# Altium footprint library Potentiometer_THT.PcbLib: 112 footprints (part 4 of 7)
Each footprint in its own frame and in the unit in brackets; x right, y up, seen from the top. Pads: shape width x height; smd on the part's side, far side on the other; paste and mask are expansions set on the pad; w line width, h text height; cw(c..) or ccw(c..) is an arc to the next point about the centre after c.
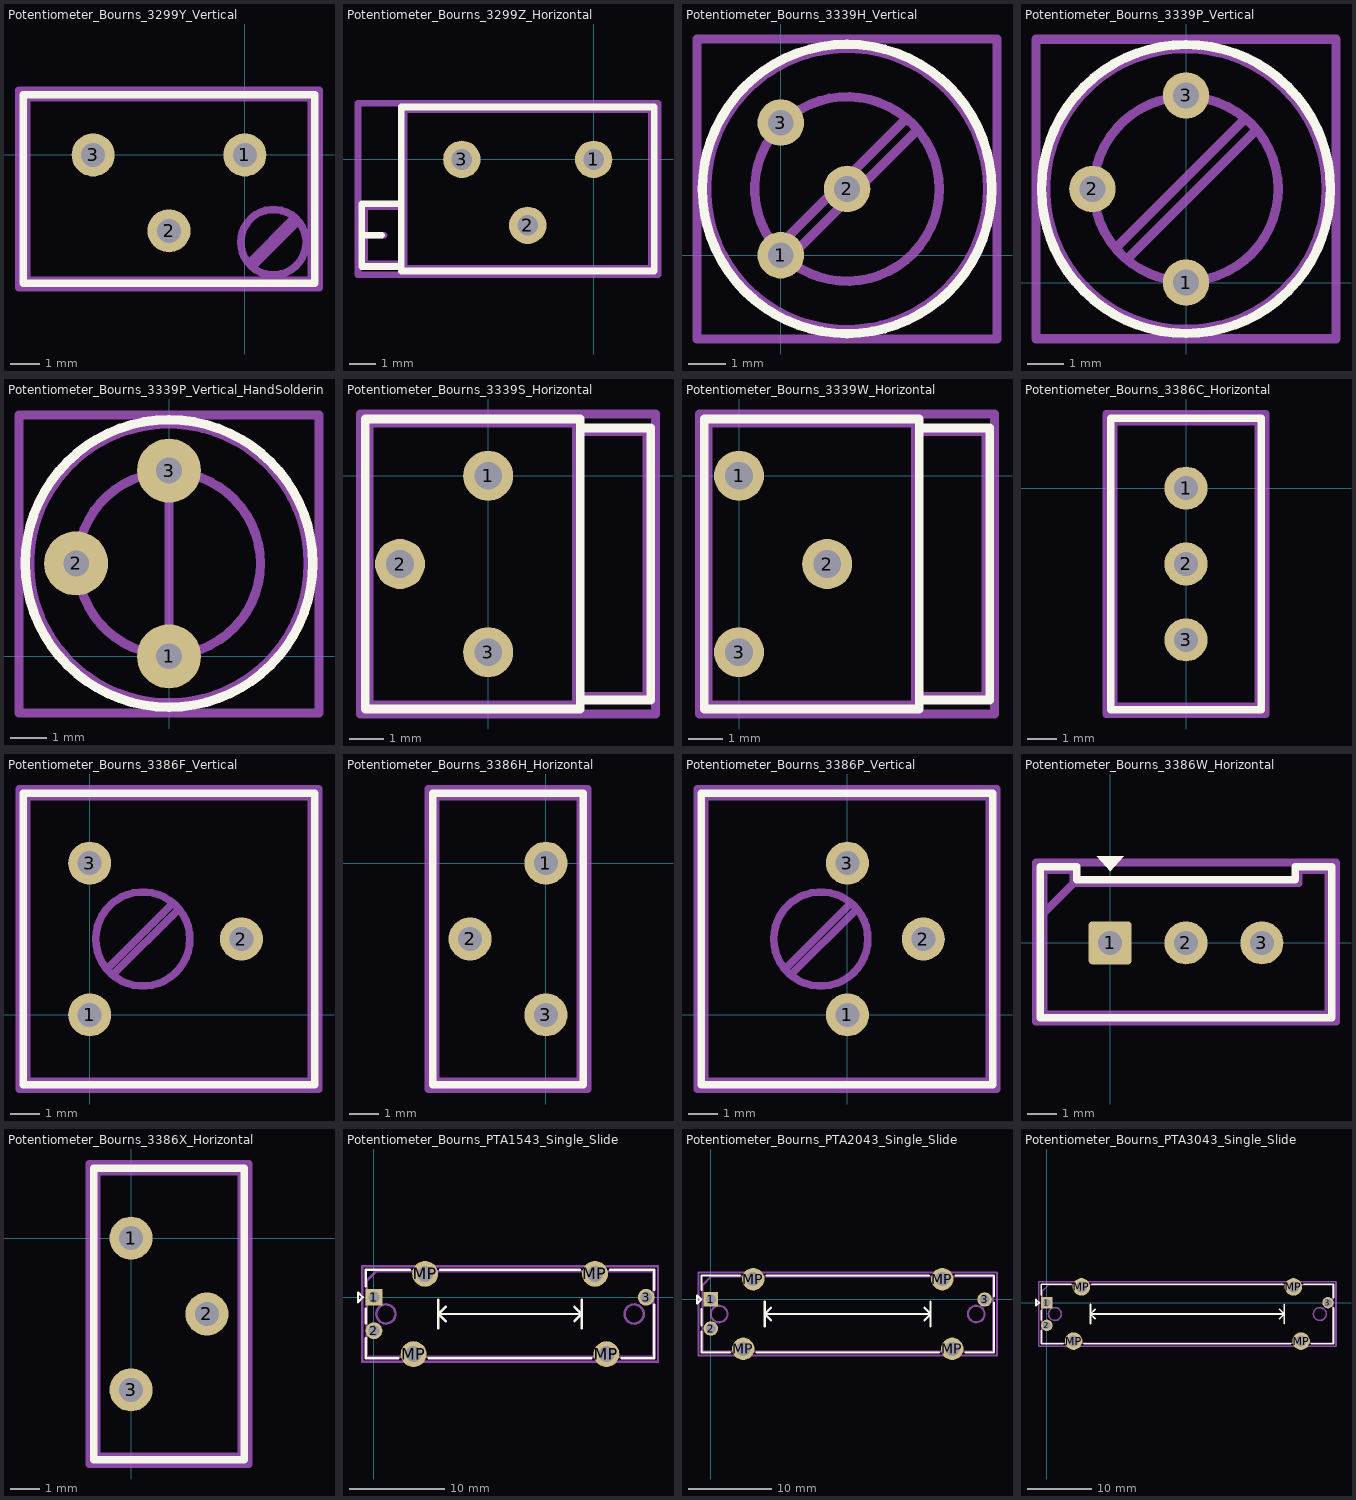
[diagram p3: the footprints below, top view; thin cyan lines are the x and y axes]

## Potentiometer_Bourns_3299Y_Vertical [mm]
pads (3):
  round 1.44 hole 0.8: 1(0,0) 2(-2.54,-2.54) 3(-5.08,0)
F.SilkS:
  lines w0.254: -7.415,-4.3 -7.415,2.02 2.335,2.02 2.335,-4.3 -7.415,-4.3
F.Fab:
  circle w0.254: c0.955,-2.92 r1.095
  lines w0.254: 0.125,-3.617 1.652,-2.09 ; 0.258,-3.75 1.785,-2.223 ; -7.305,-4.19 -7.305,1.91 2.225,1.91 2.225,-4.19 -7.305,-4.19
  text "'.Designator'" at -7.222,-1.98 h1
F.CrtYd:
  lines w0.254: -7.56,-4.44 -7.56,2.16 2.48,2.16 2.48,-4.44 -7.56,-4.44
3D body "Potentiometer_Bourns_3299Y_Vertical.step": height 11.65, standoff -2.9, extent -7.305,-4.19 2.225,1.91

## Potentiometer_Bourns_3299Z_Horizontal [mm]
pads (3):
  round 1.44 hole 0.8: 1(0,0) 2(-2.54,-2.54) 3(-5.08,0)
F.SilkS:
  lines w0.254: -8.935,-2.92 -8.175,-2.92 ; -8.935,-4.125 -8.935,-1.715 -7.415,-1.715 -7.415,-4.125 -8.935,-4.125 ; -7.415,-4.3 -7.415,2.02 2.335,2.02 2.335,-4.3 -7.415,-4.3
F.Fab:
  lines w0.254: -8.825,-2.92 -8.065,-2.92 ; -8.825,-4.015 -8.825,-1.825 -7.305,-1.825 -7.305,-4.015 -8.825,-4.015 ; -7.305,-4.19 -7.305,1.91 2.225,1.91 2.225,-4.19 -7.305,-4.19
  text "'.Designator'" at -6.587,-1.98 h1
F.CrtYd:
  lines w0.254: -9.08,-4.44 -9.08,2.16 2.48,2.16 2.48,-4.44 -9.08,-4.44
3D body "Potentiometer_Bourns_3299Z_Horizontal.step": height 10.13, standoff -2.9, extent -8.825,-4.19 2.225,1.91

## Potentiometer_Bourns_3339H_Vertical [mm]
pads (3):
  round 1.26 hole 0.7: 1(0,0) 2(1.796,1.796) 3(0,3.592)
F.SilkS:
  circle w0.254: c1.796,1.796 r3.92
F.Fab:
  circle w0.254: c1.796,1.796 r2.5
  circle w0.254: c1.796,1.796 r3.81
  lines w0.254: -0.1,0.205 3.387,3.692 ; 0.205,-0.1 3.692,3.387
  text "'.Designator'" at -0.666,-0.876 h0.66
F.CrtYd:
  lines w0.254: -2.27,-2.27 -2.27,5.86 5.86,5.86 5.86,-2.27 -2.27,-2.27
3D body "Potentiometer_Bourns_3339H_Vertical.step": height 6.35, standoff -4.78, extent -2.013,-2.02 5.607,5.6

## Potentiometer_Bourns_3339P_Vertical [mm]
pads (3):
  round 1.26 hole 0.7: 1(0,0) 2(-2.54,2.54) 3(0,5.08)
F.SilkS:
  circle w0.254: c0,2.54 r3.92
F.Fab:
  circle w0.254: c0,2.54 r2.5
  circle w0.254: c0,2.54 r3.81
  lines w0.254: -1.896,0.949 1.591,4.436 ; -1.591,0.644 1.896,4.131
  text "'.Designator'" at -2.462,-0.132 h0.66
F.CrtYd:
  lines w0.254: -4.07,-1.52 -4.07,6.6 4.07,6.6 4.07,-1.52 -4.07,-1.52
3D body "Potentiometer_Bourns_3339P_Vertical.step": height 6.35, standoff -4.78, extent -3.81,-1.27 3.81,6.35

## Potentiometer_Bourns_3339P_Vertical_HandSoldering [mm]
pads (3):
  round 1.75 hole 0.7: 1(0,0) 2(-2.54,2.54) 3(0,5.08)
F.SilkS:
  circle w0.254: c0,2.54 r3.93
F.Fab:
  circle w0.254: c0,2.54 r3.81
  circle w0.254: c0,2.54 r2.5
  lines w0.254: 0,0.064 0.001,5.014 0,0.064
  text "'.Designator'" at -2.412,-0.182 h0.66
F.CrtYd:
  lines w0.254: -4.1,-1.55 4.1,-1.55 4.1,6.6 -4.1,6.6 -4.1,-1.55
3D body "Potentiometer_Bourns_3339P_Vertical.step": height 6.35, standoff -4.78, extent -3.81,-1.27 3.81,6.35

## Potentiometer_Bourns_3339S_Horizontal [mm]
pads (3):
  round 1.44 hole 0.8: 1(0,0) 2(-2.54,-2.54) 3(0,-5.08)
F.SilkS:
  lines w0.254: -3.54,-6.715 -3.54,1.635 2.65,1.635 2.65,-6.715 -3.54,-6.715 ; 2.65,-6.46 2.65,1.38 4.68,1.38 4.68,-6.46 2.65,-6.46
F.Fab:
  lines w0.254: -3.43,-6.605 -3.43,1.525 2.54,1.525 2.54,-6.605 -3.43,-6.605 ; 2.54,-6.35 2.54,1.27 4.57,1.27 4.57,-6.35 2.54,-6.35
  text "'.Designator'" at -4.492,-3.38 h1
F.CrtYd:
  lines w0.254: -3.68,-6.86 -3.68,1.78 4.82,1.78 4.82,-6.86 -3.68,-6.86

## Potentiometer_Bourns_3339W_Horizontal [mm]
pads (3):
  round 1.44 hole 0.8: 1(0,0) 2(2.54,-2.54) 3(0,-5.08)
F.SilkS:
  lines w0.254: -1,-6.715 5.19,-6.715 5.19,1.635 -1,1.635 -1,-6.715 ; 5.19,-6.46 7.22,-6.46 7.22,1.38 5.19,1.38 5.19,-6.46
F.Fab:
  lines w0.254: -0.89,-6.605 5.08,-6.605 5.08,1.525 -0.89,1.525 -0.89,-6.605 ; 5.08,-6.35 7.11,-6.35 7.11,1.27 5.08,1.27 5.08,-6.35
  text "'.Designator'" at -1.952,-3.38 h1
F.CrtYd:
  lines w0.254: -1.14,-6.86 7.36,-6.86 7.36,1.78 -1.14,1.78 -1.14,-6.86

## Potentiometer_Bourns_3386C_Horizontal [mm]
pads (3):
  round 1.44 hole 0.8: 1(0,0) 2(0,-2.54) 3(0,-5.08)
F.SilkS:
  lines w0.254: -2.525,-7.415 -2.525,2.335 2.525,2.335 2.525,-7.415 -2.525,-7.415
F.Fab:
  lines w0.254: -2.415,-7.305 -2.415,2.225 2.415,2.225 2.415,-7.305 -2.415,-7.305
  text "'.Designator'" at -4.047,-3.38 h1
F.CrtYd:
  lines w0.254: -2.67,-7.56 -2.67,2.48 2.67,2.48 2.67,-7.56 -2.67,-7.56

## Potentiometer_Bourns_3386F_Vertical [mm]
pads (3):
  round 1.44 hole 0.8: 1(0,0) 2(5.08,2.54) 3(0,5.08)
F.SilkS:
  lines w0.254: -2.22,-2.335 -2.22,7.415 7.53,7.415 7.53,-2.335 -2.22,-2.335
F.Fab:
  circle w0.254: c1.78,2.54 r1.575
  lines w0.254: 0.586,1.538 2.782,3.734 ; 0.778,1.346 2.974,3.542 ; -2.11,-2.225 -2.11,7.305 7.42,7.305 7.42,-2.225 -2.11,-2.225
  text "'.Designator'" at -0.27,-1.507 h1
F.CrtYd:
  lines w0.254: -2.36,-2.48 -2.36,7.56 7.67,7.56 7.67,-2.48 -2.36,-2.48

## Potentiometer_Bourns_3386H_Horizontal [mm]
pads (3):
  round 1.44 hole 0.8: 1(0,0) 2(-2.54,-2.54) 3(0,-5.08)
F.SilkS:
  lines w0.254: -3.795,-7.415 -3.795,2.335 1.255,2.335 1.255,-7.415 -3.795,-7.415
F.Fab:
  lines w0.254: -3.685,-7.305 -3.685,2.225 1.145,2.225 1.145,-7.305 -3.685,-7.305
  text "'.Designator'" at -5.317,-3.38 h1
F.CrtYd:
  lines w0.254: -3.94,-7.56 -3.94,2.48 1.4,2.48 1.4,-7.56 -3.94,-7.56

## Potentiometer_Bourns_3386P_Vertical [mm]
pads (3):
  round 1.44 hole 0.8: 1(0,0) 2(2.54,2.54) 3(0,5.08)
F.SilkS:
  lines w0.254: -4.89,-2.335 4.86,-2.335 4.86,7.415 -4.89,7.415 -4.89,-2.335
F.Fab:
  circle w0.254: c-0.89,2.54 r1.575
  lines w0.254: -2.084,1.538 0.112,3.734 ; -1.892,1.346 0.304,3.542 ; -4.78,-2.225 4.75,-2.225 4.75,7.305 -4.78,7.305 -4.78,-2.225
  text "'.Designator'" at -2.94,-1.507 h1
F.CrtYd:
  lines w0.254: -5.03,-2.48 5,-2.48 5,7.56 -5.03,7.56 -5.03,-2.48

## Potentiometer_Bourns_3386W_Horizontal [mm]
pads (3):
  rrect17% 1.44x1.44 hole 0.8: 1(0,0)
  round 1.44 hole 0.8: 2(2.54,0) 3(5.08,0)
F.SilkS:
  region: 0,2.4 -0.45,2.9 0.45,2.9
  lines w0.254: -2.335,-2.5 7.415,-2.5 7.415,2.55 6.195,2.55 6.195,2.11 -1.115,2.11 -1.115,2.55 -2.335,2.55 -2.335,-2.5
F.Fab:
  lines w0.254: -2.225,1 -1.225,2 ; -1.225,2 6.305,2 6.305,2.44 7.305,2.44 7.305,-2.39 -2.225,-2.39 -2.225,2.44 -1.225,2.44 -1.225,2
  text "'.Designator'" at -1.507,-1.035 h1
F.CrtYd:
  lines w0.254: -2.48,-2.64 7.56,-2.64 7.56,2.69 -2.48,2.69 -2.48,-2.64
3D body "Potentiometer_Bourns_3386W_Horizontal.step": height 9.54, standoff -5.96, extent -2.225,-2.39 7.305,2.44

## Potentiometer_Bourns_3386X_Horizontal [mm]
pads (3):
  round 1.44 hole 0.8: 1(0,0) 2(2.54,-2.54) 3(0,-5.08)
F.SilkS:
  lines w0.254: -1.255,-7.415 -1.255,2.335 3.795,2.335 3.795,-7.415 -1.255,-7.415
F.Fab:
  lines w0.254: -1.145,-7.305 -1.145,2.225 3.685,2.225 3.685,-7.305 -1.145,-7.305
  text "'.Designator'" at -2.777,-3.38 h1
F.CrtYd:
  lines w0.254: -1.4,-7.56 -1.4,2.48 3.94,2.48 3.94,-7.56 -1.4,-7.56

## Potentiometer_Bourns_PTA1543_Single_Slide [mm]
pads (7):
  rect 1.75x1.75 hole 1.2: 1(0,0)
  round 1.75 hole 1.2: 2(0,-3.5) 3(28.5,0)
  round 2.7 hole 1.7: MP(4.15,-5.95) MP(5.35,2.45) MP(23.15,2.45) MP(24.35,-5.95)
F.SilkS:
  lines w0.254: -0.87,-4.29 -0.87,-6.37 2.554,-6.37 ; -0.87,-2.71 -0.87,-1.175 ; -0.87,1.175 -0.87,2.87 3.754,2.87 ; 5.746,-6.37 22.754,-6.37 ; 6.75,-3.25 6.75,-0.25 ; 6.946,2.87 21.554,2.87 ; 7.5,-2.5 6.75,-1.75 ; 7.5,-1 6.75,-1.75 ; 21,-2.5 21.75,-1.75 ; 21,-1 21.75,-1.75 ; 21.75,-3.25 21.75,-0.25 ; 24.746,2.87 29.37,2.87 29.37,0.79 ; 25.946,-6.37 29.37,-6.37 29.37,-0.79 ; 6.75,-1.75 21.75,-1.75 ; -1.675,-0.5 -1.675,0.5 -1.175,0 -1.675,-0.5
F.Fab:
  circle w0.254: c1.25,-1.75 r1
  circle w0.254: c27.25,-1.75 r1
  lines w0.254: -0.75,-6.25 -0.75,1.75 0.25,2.75 29.25,2.75 29.25,-6.25 -0.75,-6.25
  text "'.Designator'" at 10.203,-2.59 h1
F.CrtYd:
  lines w0.254: -1.25,-6.75 -1.25,3.25 29.75,3.25 29.75,-6.75 -1.25,-6.75

## Potentiometer_Bourns_PTA2043_Single_Slide [mm]
pads (7):
  rect 1.75x1.75 hole 1.2: 1(0,0)
  round 1.75 hole 1.2: 2(0,-3.5) 3(33,0)
  round 2.7 hole 1.7: MP(3.9,-5.95) MP(5.1,2.45) MP(27.9,2.45) MP(29.1,-5.95)
F.SilkS:
  lines w0.254: -1.12,-3.855 -1.12,-6.37 2.304,-6.37 ; -1.12,-3.145 -1.12,-1.175 ; -1.12,1.175 -1.12,2.87 3.504,2.87 ; 5.496,-6.37 27.504,-6.37 ; 6.5,-3.25 6.5,-0.25 ; 6.696,2.87 26.304,2.87 ; 7.25,-2.5 6.5,-1.75 ; 7.25,-1 6.5,-1.75 ; 25.75,-2.5 26.5,-1.75 ; 25.75,-1 26.5,-1.75 ; 26.5,-3.25 26.5,-0.25 ; 29.496,2.87 34.12,2.87 34.12,0.355 ; 30.696,-6.37 34.12,-6.37 34.12,-0.355 ; 6.5,-1.75 26.5,-1.75 ; -1.675,-0.5 -1.675,0.5 -1.175,0 -1.675,-0.5
F.Fab:
  circle w0.254: c1,-1.75 r1
  circle w0.254: c32,-1.75 r1
  lines w0.254: -1,-6.25 -1,1.75 0,2.75 34,2.75 34,-6.25 -1,-6.25
  text "'.Designator'" at 12.453,-2.59 h1
F.CrtYd:
  lines w0.254: -1.5,-6.75 -1.5,3.25 34.5,3.25 34.5,-6.75 -1.5,-6.75

## Potentiometer_Bourns_PTA3043_Single_Slide [mm]
pads (7):
  rect 1.75x1.75 hole 1.2: 1(0,0)
  round 1.75 hole 1.2: 2(0,-3.5) 3(43.5,0)
  round 2.7 hole 1.7: MP(4.15,-5.95) MP(5.35,2.45) MP(38.15,2.45) MP(39.35,-5.95)
F.SilkS:
  lines w0.254: -0.87,-4.29 -0.87,-6.37 2.554,-6.37 ; -0.87,-2.71 -0.87,-1.175 ; -0.87,1.175 -0.87,2.87 3.754,2.87 ; 5.746,-6.37 37.754,-6.37 ; 6.75,-3.25 6.75,-0.25 ; 6.946,2.87 36.554,2.87 ; 7.5,-2.5 6.75,-1.75 ; 7.5,-1 6.75,-1.75 ; 36,-2.5 36.75,-1.75 ; 36,-1 36.75,-1.75 ; 36.75,-3.25 36.75,-0.25 ; 39.746,2.87 44.37,2.87 44.37,0.79 ; 40.946,-6.37 44.37,-6.37 44.37,-0.79 ; 6.75,-1.75 36.75,-1.75 ; -1.675,-0.5 -1.675,0.5 -1.175,0 -1.675,-0.5
F.Fab:
  circle w0.254: c1.25,-1.75 r1
  circle w0.254: c42.25,-1.75 r1
  lines w0.254: -0.75,-6.25 -0.75,1.75 0.25,2.75 44.25,2.75 44.25,-6.25 -0.75,-6.25
  text "'.Designator'" at 17.703,-2.59 h1
F.CrtYd:
  lines w0.254: -1.25,-6.75 -1.25,3.25 44.75,3.25 44.75,-6.75 -1.25,-6.75